# Altium footprint library 封装库.PcbLib: 324 footprints (part 20 of 21)
Each footprint in its own frame and in the unit in brackets; x right, y up, seen from the top. Pads: shape width x height; smd on the part's side, far side on the other; paste and mask are expansions set on the pad; w line width, h text height; cw(c..) or ccw(c..) is an arc to the next point about the centre after c.
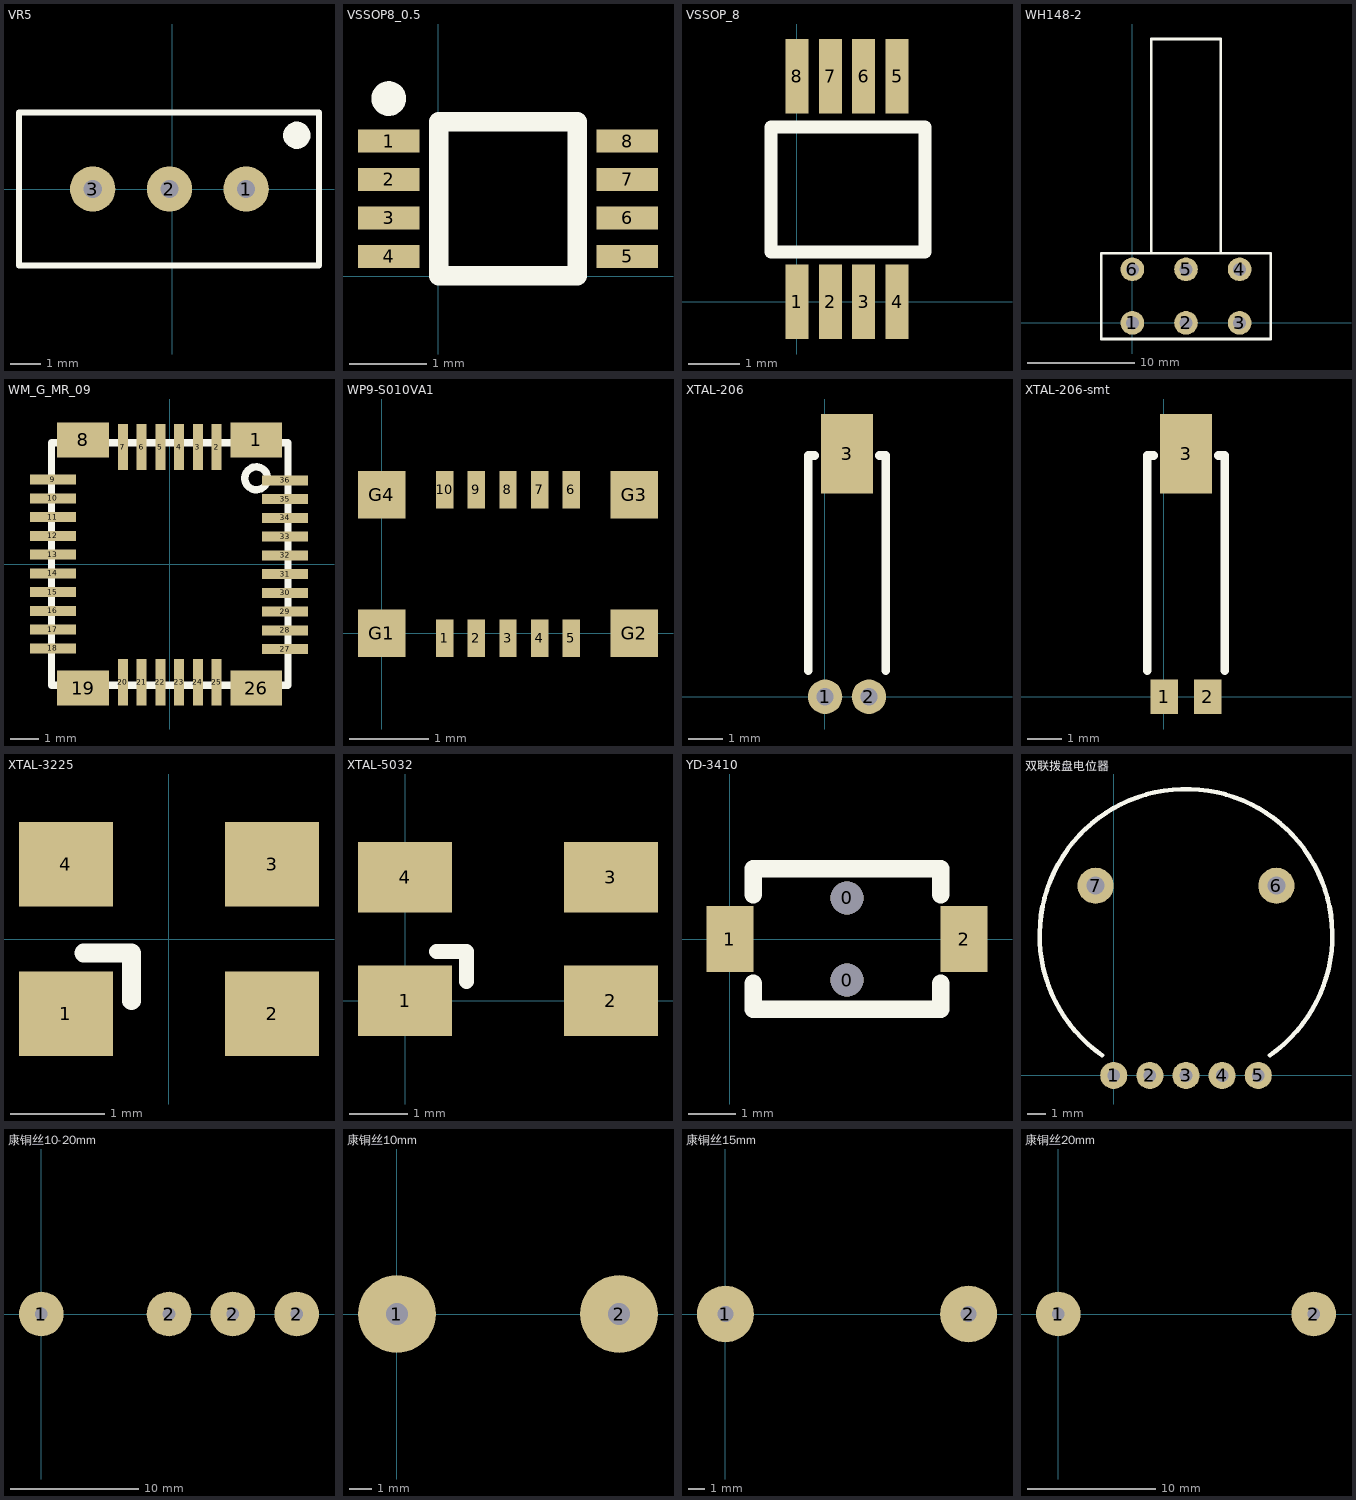
[diagram p19: the footprints below, top view; thin cyan lines are the x and y axes]

## VR5 [mm] "Variable Resistor, Thru-Hole; 3 Leads"
pads (3):
  round 1.5 hole 0.6: 1(2.44,0) 2(-0.1,0) 3(-2.64,0)
Top Overlay:
  circle w0.5: c4.115,1.778 r0.2
  lines w0.2: -5.08,-2.54 -5.08,2.54 4.851,2.54 4.851,0 4.851,-2.54 -5.08,-2.54

## VSSOP8_0.5 [mm]
pads (8):
  rect 0.8x0.3 smd: 1(-0.641,1.759) 2(-0.641,1.259) 3(-0.641,0.759) 4(-0.641,0.259) 5(2.459,0.259) 6(2.459,0.759) 7(2.459,1.259) 8(2.459,1.759)
Top Overlay:
  circle w0.25: c-0.641,2.311 r0.1
  lines w0.254: 0.009,0.009 0.009,2.009 1.809,2.009 1.809,0.009 0.009,0.009

## VSSOP_8 [mm]
pads (8):
  rect 0.45x1.45 smd: 1(0,0) 2(0.65,0) 3(1.3,0) 4(1.95,0) 5(1.95,4.4) 6(1.3,4.4) 7(0.65,4.4) 8(0,4.4)
Top Overlay:
  lines w0.254: -0.508,0.971 -0.508,3.409 2.492,3.409 2.492,0.971 -0.508,0.971

## WH148-2 [mm] "双联电位器"
height 21
pads (6):
  round 2.2 hole 1.2: 1(0,0) 2(5,0) 3(10,0) 4(10,5) 5(5,5) 6(0,5)
Top Overlay:
  lines w0.254: 1.75,6.5 1.75,26.5 8.25,26.5 8.25,6.5 ; -2.9,-1.5 -2.9,6.5 12.9,6.5 12.9,-1.5 -2.9,-1.5

## WM_G_MR_09 [mm]
pads (36):
  rect 1.8x1.2 smd: 1(3,4.3) 8(-3,4.3) 19(-3,-4.3) 26(3,-4.3)
  rect 0.35x1.6 smd: 2(1.625,4.05) 3(0.975,4.05) 4(0.325,4.05) 5(-0.325,4.05) 6(-0.975,4.05) 7(-1.625,4.05) 20(-1.625,-4.1) 21(-0.975,-4.1) 22(-0.325,-4.1) 23(0.325,-4.1) 24(0.975,-4.1) 25(1.625,-4.1)
  rect 1.6x0.35 smd: 9(-4.05,2.925) 10(-4.05,2.275) 11(-4.05,1.625) 12(-4.05,0.975) 13(-4.05,0.325) 14(-4.05,-0.325) 15(-4.05,-0.975) 16(-4.05,-1.625) 17(-4.05,-2.275) 18(-4.05,-2.925) 27(4,-2.95) 28(4,-2.3) 29(4,-1.65) 30(4,-1) 31(4,-0.35) 32(4,0.3) 33(4,0.95) 34(4,1.6) 35(4,2.25) 36(4,2.9)
Top Overlay:
  circle w0.254: c3,2.97 r0.397
  lines w0.254: -4.1,-4.2 4.1,-4.2 4.1,4.2 -4.1,4.2 -4.1,-4.2

## WP9-S010VA1 [mm] "JAE 10P板对板连接器(插座)"
height 0.8
pads (14):
  rect 0.22x0.475 smd: 1(0.8,-0.062) 2(1.2,-0.062) 3(1.6,-0.062) 4(2,-0.062) 5(2.4,-0.062) 6(2.4,1.812) 7(2,1.812) 8(1.6,1.812) 9(1.2,1.812) 10(0.8,1.812)
  rect 0.6x0.6 smd: G1(0,0) G2(3.2,0) G3(3.2,1.75) G4(0,1.75)

## XTAL-206 [mm] "圆柱晶振 2mm X 6mm"
height 2
pads (3):
  round 1 hole 0.5: 1(0.004,0) 2(1.276,0)
  rect 1.5x2.3 smd: 3(0.64,7.054)
Top Overlay:
  lines w0.254: -0.487,0.762 -0.487,7 -0.3,7 ; 1.58,7 1.767,7 1.767,0.762

## XTAL-206-smt [mm] "圆柱晶振 2mm X 6mm"
height 2
pads (3):
  rect 0.8x1 smd: 1(0.004,0) 2(1.276,0)
  rect 1.5x2.3 smd: 3(0.64,7.054)
Top Overlay:
  lines w0.254: -0.487,0.762 -0.487,7 -0.3,7 ; 1.58,7 1.767,7 1.767,0.762

## XTAL-3225 [mm]
pads (4):
  rect 1x0.9 smd: 1(-1.098,-0.798) 2(1.098,-0.798) 3(1.098,0.798) 4(-1.098,0.798)
Top Overlay:
  lines w0.2: -0.908,-0.15 -0.4,-0.15 -0.4,-0.658

## XTAL-5032 [mm]
pads (4):
  rect 1.6x1.2 smd: 1(0,0) 2(3.5,0) 3(3.5,2.1) 4(0,2.1)
Top Overlay:
  lines w0.254: 0.533,0.838 1.041,0.838 1.041,0.33

## YD-3410 [mm]
pads (4):
  round 0.7 hole 0.7 unplated: 0(2.5,-0.875) 0(2.5,0.875)
  rect 1x1.4 smd: 1(0,0) 2(5,0)
Top Overlay:
  lines w0.381: 0.5,-0.95 0.5,-1.5 4.5,-1.5 4.5,-0.95 ; 0.5,0.95 0.5,1.5 4.5,1.5 4.5,0.95

## 双联拨盘电位器 [mm]
pads (7):
  round 1.5 hole 0.7: 1(0,0) 2(2,0) 3(4,0) 4(6,0) 5(8,0)
  round 2 hole 1: 6(9,10.5) 7(-1,10.5)
Top Overlay:
  lines w0.254: -0.646,1.115 cw(c4,7.75) 8.646,1.115

## 康铜丝10-20mm [mm]
pads (4):
  round 3.5 hole 1: 1(0,0) 2(10,0) 2(15,0) 2(20,0)

## 康铜丝10mm [mm]
pads (2):
  round 3.5 hole 1: 1(0,0) 2(10,0)

## 康铜丝15mm [mm]
pads (2):
  round 3.5 hole 1: 1(0,0) 2(15,0)

## 康铜丝20mm [mm]
pads (2):
  round 3.5 hole 1: 1(0,0) 2(20,0)